# Altium footprint library Inverter Processor PCB.PcbLib: 44 footprints (part 2 of 3)
Each footprint in its own frame and in the unit in brackets; x right, y up, seen from the top. Pads: shape width x height; smd on the part's side, far side on the other; paste and mask are expansions set on the pad; w line width, h text height; cw(c..) or ccw(c..) is an arc to the next point about the centre after c.
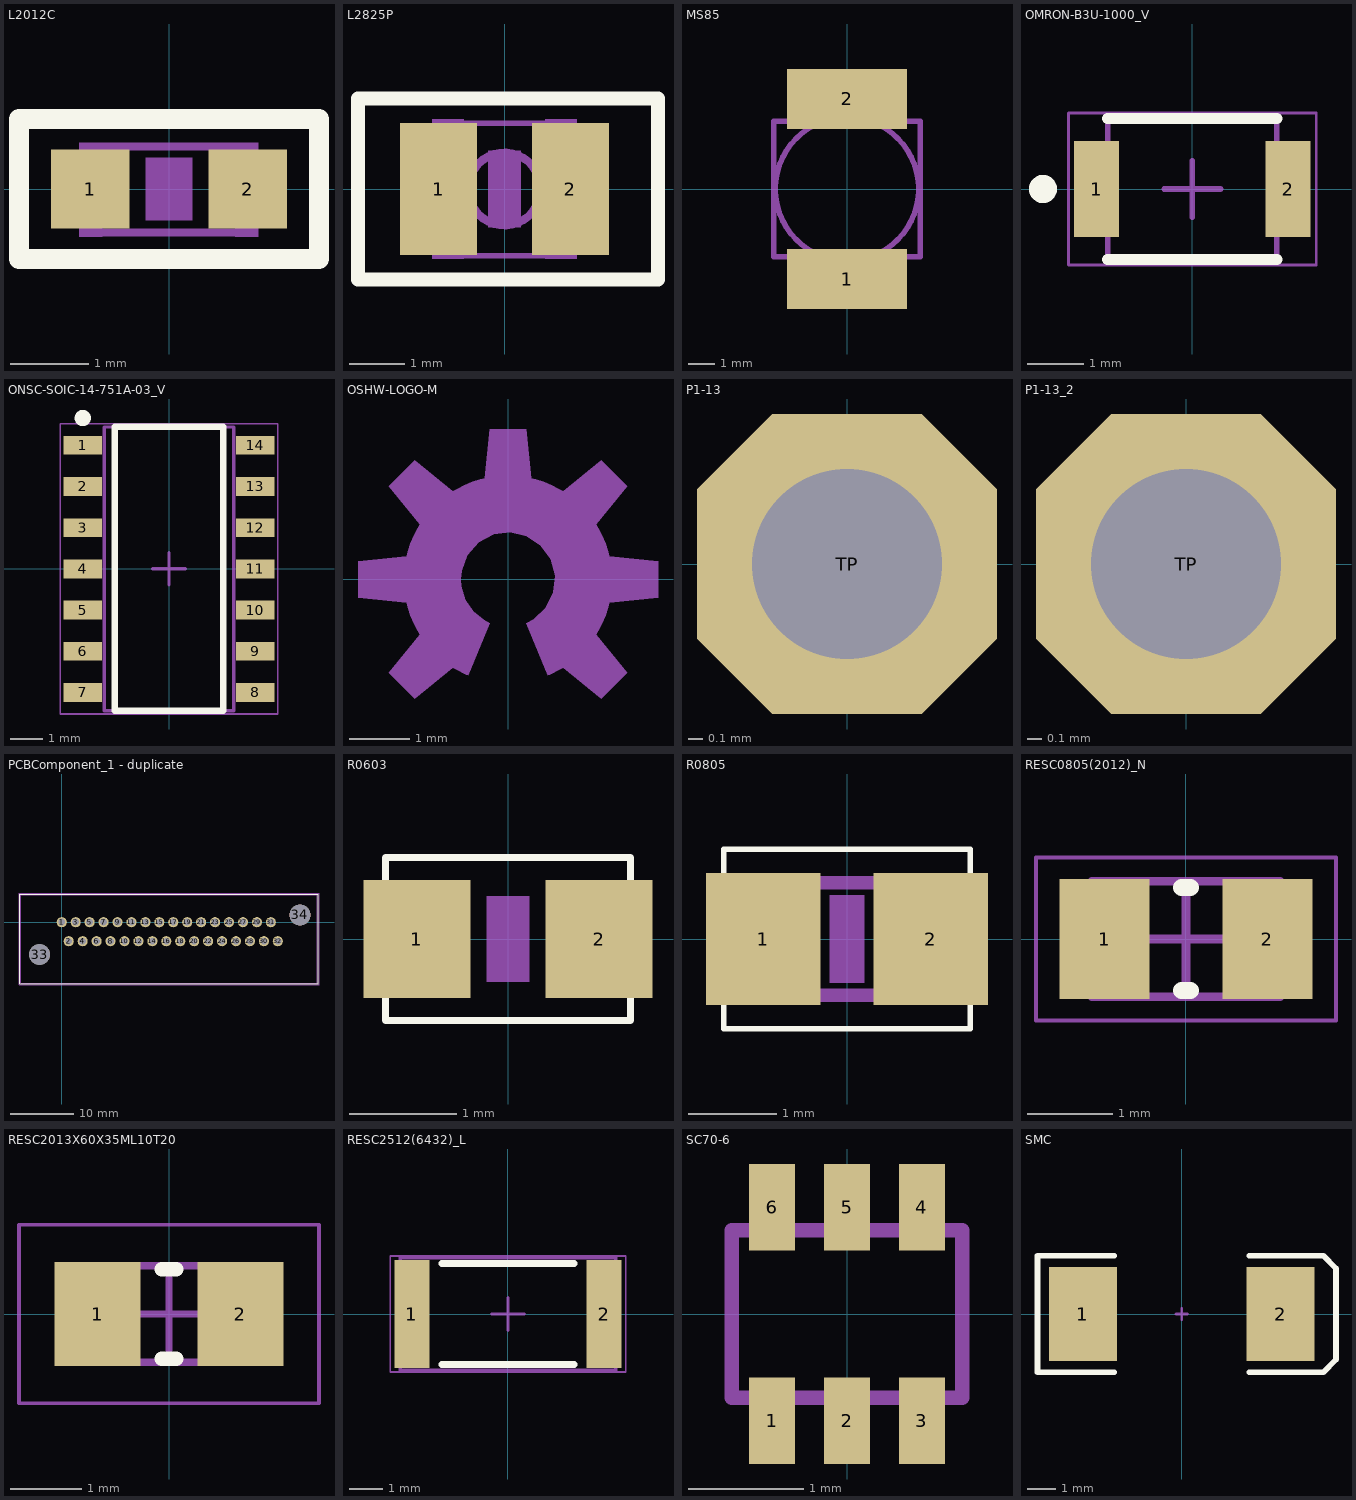
[diagram p1: the footprints below, top view; thin cyan lines are the x and y axes]

## L2012C [mm] "L2012C"
pads (2):
  rect 1x1 smd: 1(-1,0) 2(1,0)
Top Overlay:
  lines w0.254: -1.905,-0.889 1.905,-0.889 1.905,0.889 -1.905,0.889 -1.905,-0.889
Mechanical 8:
  rectangle: -0.3,-0.4 0.3,0.4
Mechanical 16:
  rectangle: -1.143,-0.61 -0.843,0.59
  rectangle: 0.838,-0.61 1.138,0.59
  lines w0.102: -0.864,-0.553 0.864,-0.553 ; -0.864,0.54 0.864,0.54

## L2825P [mm] "L2825P"
pads (2):
  rect 1.4x2.4 smd: 1(-1.2,0) 2(1.2,0)
Top Overlay:
  lines w0.254: 2.794,-1.483 2.794,1.651 -2.667,1.651 -2.667,-1.483 -2.667,-1.651 2.794,-1.651 2.794,-1.27
Mechanical 8:
  rectangle: -0.3,-0.7 0.3,0.7
Mechanical 16:
  circle w0.152: c0,0 r0.66
  rectangle: 0.737,-1.27 1.321,1.27
  rectangle: -1.321,-1.27 -0.737,1.27
  lines w0.102: -1.34,-0.965 -1.34,0.965 ; -0.762,-1.213 0.762,-1.213 ; -0.762,1.2 0.762,1.2 ; 1.34,-0.965 1.34,0.965

## MS85 [mm] "MS85"
pads (2):
  rect 4.5x2.25 smd: 1(0,-3.383) 2(0,3.383)
Mechanical 2:
  lines w0.203: -2.5,-2.55 -2.75,-2.55 -2.75,2.55 -2.5,2.55 ; 2.5,-2.55 2.75,-2.55 2.75,2.55 2.5,2.55
Mechanical 16:
  lines w0.203: -2.75,-2.55 2.75,-2.55 ; -2.75,2.55 2.75,2.55 ; -1,-2.5 cw(c0,0) -1,2.5 ; -0.7,-2.65 -0.9,-4.3 0.9,-4.3 0.7,-2.65 ; -0.7,2.65 -0.9,4.3 0.9,4.3 0.7,2.65 ; 1,-2.5 ccw(c0,0) 1,2.5

## OMRON-B3U-1000_V [mm] "SMD, 2-Leads, Body 3x2.5mm"
height 1.75
pads (2):
  rect 0.8x1.7 smd: 1(-1.7,0) 2(1.7,0)
Top Overlay:
  circle w0.25: c-2.65,0 r0.125
  lines w0.2: -1.5,-1.25 1.5,-1.25 ; -1.5,1.25 1.5,1.25
Mechanical 13:
  lines w0.1: -1.5,-1.25 -1.5,1.25 1.5,1.25 1.5,-1.25 -1.5,-1.25
Mechanical 15:
  lines w0.05: -2.2,-1.35 -2.2,1.35 2.2,1.35 2.2,-1.35 -2.2,-1.35
  lines w0.1: -0.5,0 0.5,0 ; 0,-0.5 0,0.5
3D body: height 1.35, standoff 0, extent -1.5,-1.25 1.5,1.25
3D body: height 1.75, standoff 1.35, extent -0.75,-0.75 0.75,0.75

## ONSC-SOIC-14-751A-03_V [mm] "SOIC, 14-Leads, Body 8.75x4mm, Pitch 1.27mm"
height 1.75
pads (14):
  rect 1.18x0.58 smd: 1(-2.66,3.81) 2(-2.66,2.54) 3(-2.66,1.27) 4(-2.66,0) 5(-2.66,-1.27) 6(-2.66,-2.54) 7(-2.66,-3.81) 8(2.66,-3.81) 9(2.66,-2.54) 10(2.66,-1.27) 11(2.66,0) 12(2.66,1.27) 13(2.66,2.54) 14(2.66,3.81)
Top Overlay:
  circle w0.25: c-2.66,4.65 r0.125
  lines w0.2: -1.67,-4.375 -1.67,4.375 1.67,4.375 1.67,-4.375 -1.67,-4.375
Mechanical 13:
  lines w0.1: -2,-4.375 2,-4.375 2,4.375 -2,4.375 -2,-4.375
Mechanical 15:
  lines w0.05: -3.35,-4.475 3.35,-4.475 3.35,4.475 -3.35,4.475 -3.35,-4.475
  lines w0.1: -0.5,0 0.5,0 ; 0,-0.5 0,0.5
3D body: height 1.75, standoff 0.1, extent -2,-4.375 2,4.375

## OSHW-LOGO-M [mm] "OSHW-LOGO-M"
Mechanical 2:
  region: 0.658,-1.588 0.691,-1.574 0.755,-1.544 0.819,-1.512 0.881,-1.477 0.911,-1.458 1.539,-1.97 1.97,-1.539 1.458,-0.911 1.495,-0.85 1.561,-0.724 1.615,-0.592 1.659,-0.456 1.675,-0.387 2.481,-0.305 2.481,0.305 1.675,0.387 1.659,0.456 1.615,0.592 1.561,0.724 1.495,0.85 1.458,0.911 1.97,1.539 1.539,1.97 0.911,1.458 0.85,1.495 0.724,1.561 0.592,1.615 0.456,1.659 0.387,1.675 0.305,2.481 -0.305,2.481 -0.387,1.675 -0.456,1.659 -0.592,1.615 -0.724,1.561 -0.85,1.495 -0.911,1.458 -1.539,1.97 -1.97,1.539 -1.458,0.911 -1.495,0.85 -1.561,0.724 -1.615,0.592 -1.659,0.456 -1.675,0.387 -2.481,0.305 -2.481,-0.305 -1.675,-0.387 -1.659,-0.456 -1.615,-0.592 -1.561,-0.724 -1.495,-0.85 -1.458,-0.911 -1.97,-1.539 -1.539,-1.97 -0.911,-1.458 -0.881,-1.477 -0.819,-1.512 -0.755,-1.544 -0.691,-1.574 -0.658,-1.588 -0.299,-0.722 -0.402,-0.67 -0.579,-0.525 -0.706,-0.334 -0.773,-0.115 -0.781,0 -0.769,0.14 -0.67,0.402 -0.486,0.612 -0.239,0.744 0.038,0.78 0.311,0.717 0.543,0.561 0.706,0.334 0.779,0.064 0.751,-0.215 0.628,-0.465 0.423,-0.657 0.299,-0.722

## P1-13 [mil] "P1-13"
pads (1):
  oct 82.3x82.3 hole 52: TP(0,0)
Mechanical 16:
  circle w6: c0,0 r30
  rectangle: -13,-13 13,13

## P1-13_2 [mil]
pads (1):
  oct 82.3x82.3 hole 52: TP(0,0)
Mechanical 16:
  circle w6: c0,0 r30
  rectangle: -12.97,-13.01 13.03,12.99

## PCBComponent_1 - duplicate [mil]
pads (34):
  round 63 hole 43 mask+0: 1(0,0) 2(43.31,-118.11) 3(86.61,0) 4(129.92,-118.11) 5(173.23,0) 6(216.54,-118.11) 7(259.84,0) 8(303.15,-118.11) 9(346.46,0) 10(389.76,-118.11) 11(433.07,0) 12(476.38,-118.11) 13(519.68,0) 14(562.99,-118.11) 15(606.3,-0.16) 16(649.61,-118.11) 17(692.91,0) 18(736.22,-118.11) 19(779.53,0) 20(822.83,-118.11) 21(866.14,0) 22(909.45,-118.11) 23(952.76,0) 24(996.06,-118.11) 25(1039.37,0) 26(1082.68,-118.11) 27(1125.98,0) 28(1169.29,-118.11) 29(1212.6,0) 30(1255.91,-118.11) 31(1299.21,0) 32(1342.52,-118.11)
  round 130 hole 130: 33(-137.72,-200.94) 34(1480.32,45.28)
Top Overlay:
  lines w6: 319.88,174.13 329.88,174.13 ; 1594.49,151.57 1594.49,174.13 1425.2,174.13 -260.62,174.13 -260.62,-382.87 1425.2,-382.87 1594.49,-382.87 1594.49,171.26
Mechanical 7:
  lines w1: 949.69,-0.16 954.69,-10.16 944.69,-10.16 949.69,-0.16 ; 949.69,-0.16 954.69,9.84 944.69,9.84 949.69,-0.16
Mechanical 13:
  lines w1: -255.62,-377.87 -255.62,169.13 1588.58,169.13 1588.58,-77.73 1588.58,-134.94 1588.58,-377.87 -255.62,-377.87
Mechanical 15:
  lines w6: -265.62,-387.87 1598.43,-387.87 1598.43,179.13 -265.62,179.13 -265.62,-387.87

## R0603 [mm] "R0603"
pads (2):
  rect 1x1.1 smd: 1(-0.85,0) 2(0.85,0)
Top Overlay:
  lines w0.064: -1.143,-0.762 1.143,-0.762 1.143,0.762 -1.143,0.762 -1.143,-0.762
Mechanical 8:
  rectangle: -0.2,-0.4 0.2,0.4

## R0805 [mm] "R0805"
pads (2):
  rect 1.3x1.5 smd: 1(-0.95,0) 2(0.95,0)
Top Overlay:
  lines w0.064: -1.397,-1.016 1.397,-1.016 1.397,1.016 -1.397,1.016 -1.397,-1.016
Mechanical 8:
  rectangle: -0.2,-0.5 0.2,0.5
Mechanical 16:
  rectangle: -1.067,-0.699 -0.417,0.702
  rectangle: 0.406,-0.699 1.056,0.702
  lines w0.152: -0.41,-0.635 0.41,-0.635 ; -0.41,0.635 0.41,0.635

## RESC0805(2012)_N [mm] "Chip Resistor, Body 2.0x1.3mm, IPC Medium Density"
height 0.7
pads (2):
  rect 1.05x1.4 smd: 1(-0.95,0) 2(0.95,0)
Top Overlay:
  lines w0.2: -0.05,-0.6 0.05,-0.6 ; -0.05,0.6 0.05,0.6
Mechanical 13:
  lines w0.1: -1.1,-0.675 1.1,-0.675 1.1,0.675 -1.1,0.675 -1.1,-0.675
Mechanical 15:
  lines w0.05: -1.75,-0.95 1.75,-0.95 1.75,0.95 -1.75,0.95 -1.75,-0.95
  lines w0.1: -0.5,0 0.5,0 ; 0,-0.5 0,0.5
3D body: height 0.7, standoff 0, extent -1.1,-0.675 -0.68,0.675
3D body: height 0.7, standoff 0, extent -0.68,-0.675 0.68,0.675
3D body: height 0.7, standoff 0, extent 0.68,-0.675 1.1,0.675

## RESC2013X60X35ML10T20 [mm] "Chip Resistor, 2-Leads, Body 2.1x1.35mm, IPC Low Density"
height 0.6
pads (2):
  rect 1.2x1.45 smd: 1(-1,0) 2(1,0)
Top Overlay:
  lines w0.2: -0.1,-0.625 0.1,-0.625 ; -0.1,0.625 0.1,0.625
Mechanical 13:
  lines w0.1: -1.05,-0.675 1.05,-0.675 1.05,0.675 -1.05,0.675 -1.05,-0.675
Mechanical 15:
  lines w0.05: -2.1,-1.25 2.1,-1.25 2.1,1.25 -2.1,1.25 -2.1,-1.25
  lines w0.1: -0.5,0 0.5,0 ; 0,-0.5 0,0.5
3D body "RESC2012X06N.step": height 0.6, standoff 0, extent -1.05,-0.675 1.05,0.675

## RESC2512(6432)_L [mm] "Chip Resistor, Body 6.4x3.2mm, IPC High Density"
height 0.75
pads (2):
  rect 1.05x3.25 smd: 1(-2.9,0) 2(2.9,0)
Top Overlay:
  lines w0.2: -2,-1.525 2,-1.525 ; -2,1.525 2,1.525
Mechanical 13:
  lines w0.1: -3.25,-1.7 3.25,-1.7 3.25,1.7 -3.25,1.7 -3.25,-1.7
Mechanical 15:
  lines w0.05: -3.55,-1.75 3.55,-1.75 3.55,1.75 -3.55,1.75 -3.55,-1.75
  lines w0.1: -0.5,0 0.5,0 ; 0,-0.5 0,0.5
3D body: height 0.75, standoff 0, extent -3.25,-1.7 -2.63,1.7
3D body: height 0.75, standoff 0, extent -2.63,-1.7 2.63,1.7
3D body: height 0.75, standoff 0, extent 2.63,-1.7 3.25,1.7

## SC70-6 [mm] "SC70-6"
pads (6):
  rect 0.4x0.75 smd paste-0.375: 1(-0.65,-0.925) 2(0,-0.925) 3(0.65,-0.925) 4(0.65,0.925) 5(0,0.925) 6(-0.65,0.925)
Top Paste:
  rectangle: -0.85,0.55 -0.45,1.3
  rectangle: 0.45,0.55 0.85,1.3
  rectangle: -0.85,-1.3 -0.45,-0.55
  rectangle: -0.2,0.55 0.2,1.3
  rectangle: -0.85,-1.3 -0.45,-0.55
  rectangle: -0.85,-1.3 -0.45,-0.55
  rectangle: -0.201,-1.3 0.199,-0.55
  rectangle: 0.45,-1.3 0.85,-0.55
Mechanical 16:
  lines w0.127: -1,-0.725 -1,0.725 1,0.725 1,-0.725 -1,-0.725

## SMC [mm] "DO-214-AB/SMC; 2 C-Bend Leads; Body 7.9 x 5.9 mm, inc. leads (LxW)"
height 2.65
pads (2):
  rect 2.4x3.3 smd: 1(-3.475,0) 2(3.475,0)
Top Overlay:
  lines w0.2: -2.375,-2.05 -5.075,-2.05 -5.075,2.05 -2.375,2.05 ; 2.375,-2.05 4.975,-2.05 5.425,-1.6 5.425,1.6 4.975,2.055 ; 2.375,2.05 4.975,2.05
Mechanical 1:
  lines w0.1: -0.2,0 0.2,0 ; 0,-0.2 0,0.2